# EAGLE library part TEMPLATE_CONVERTER-ETA3410 (library R3Mkr12F_Solar)
3MHZ 2A High Step-Down Converter in DFN2x2-8L Package
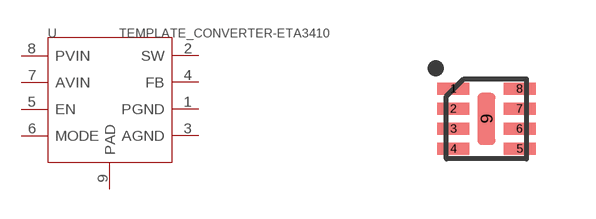
[diagram p6: symbol with the pads of TEMPLATE_DFN8G-0.5-2X2MM; footprint TEMPLATE_DFN8G-0.5-2X2MM]

Designator prefix U

## TEMPLATE_CONVERTER-ETA3410  [TEMPLATE_DFN8G-0.5-2X2MM]
1  PGND
2  SW
3  AGND
4  FB
5  EN
6  MODE
7  AVIN
8  PVIN
9  PAD

## Footprint TEMPLATE_DFN8G-0.5-2X2MM (pad centres in mm)
smd 0.8 x 0.3: 1 -0.827,0.75; 2 -0.827,0.25; 3 -0.827,-0.25; 4 -0.827,-0.75; 5 0.827,-0.75; 6 0.827,-0.25; 7 0.827,0.25; 8 0.827,0.75
smd 0.45 x 1.3: 9 0,0